# Altium footprint library HCM49_11X5X43.PcbLib: 1 footprints
Each footprint in its own frame and in the unit in brackets; x right, y up, seen from the top. Pads: shape width x height; smd on the part's side, far side on the other; paste and mask are expansions set on the pad; w line width, h text height; cw(c..) or ccw(c..) is an arc to the next point about the centre after c.
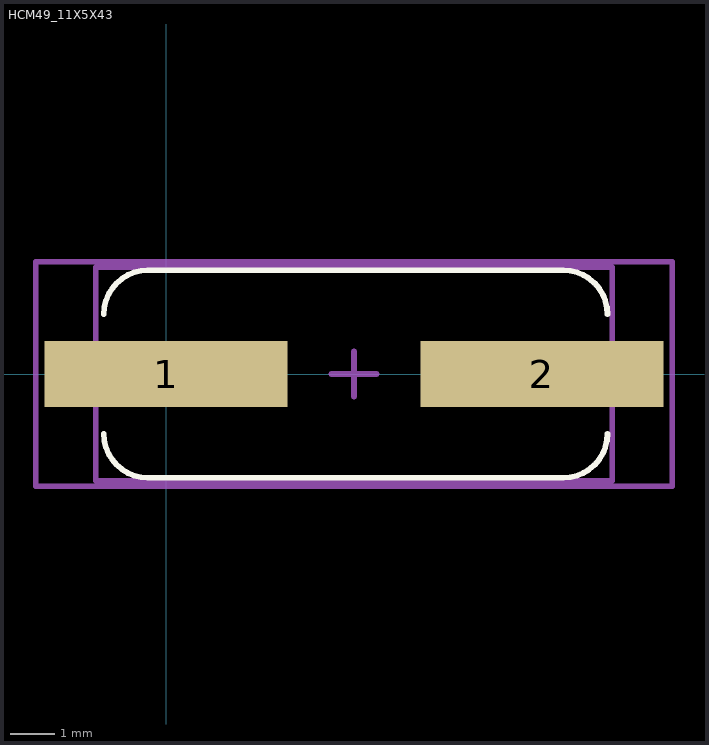
[diagram p0: the footprint, top view; thin cyan lines are the x and y axes]

## HCM49_11X5X43 [mm]
pads (2):
  rect 5.5x1.5 smd: 1(0,0) 2(8.5,0)
Top Overlay:
  lines w0.127: -1.413,-1.35 ccw(c-0.413,-1.35) -0.413,-2.35 8.987,-2.35 ccw(c8.987,-1.35) 9.987,-1.35 ; -1.413,1.35 cw(c-0.413,1.35) -0.413,2.35 8.987,2.35 cw(c8.987,1.35) 9.987,1.35
Top Assembly:
  lines w0.127: -1.592,-2.413 10.092,-2.413 10.092,2.413 -1.592,2.413 -1.592,-2.413
Top Courtyard:
  lines w0.127: 3.742,0 4.758,0 ; 4.25,-0.508 4.25,0.508 ; -2.95,-2.54 11.45,-2.54 11.45,2.54 -2.95,2.54 -2.95,-2.54
3D body "User Library-SMU-4.step": height 4, standoff 0, extent -1.974,-2.375 10.526,2.426